# Altium schematic symbol library res_single_pot.Schlib: 1 symbol
Pins are listed as number, name and electrical type; pins without a type are passive.

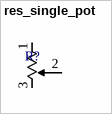
[diagram p0: symbol res_single_pot]

## res_single_pot
designator R?  (value not drawn)
pins: 1, 2, 3